# Altium footprint library TSV911ILT Opamp.PcbLib: 1 footprints
Each footprint in its own frame and in the unit in brackets; x right, y up, seen from the top. Pads: shape width x height; smd on the part's side, far side on the other; paste and mask are expansions set on the pad; w line width, h text height; cw(c..) or ccw(c..) is an arc to the next point about the centre after c.
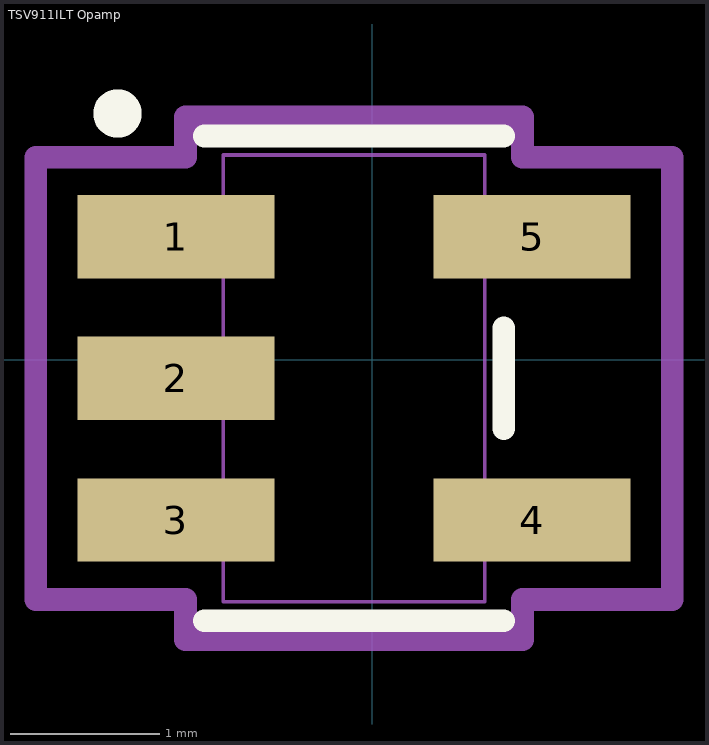
[diagram p0: the footprint, top view; thin cyan lines are the x and y axes]

## TSV911ILT Opamp [mil] "Op Amp Single"
pads (5):
  rect 52x22 smd paste+0: 1(-51.88,32.44) 2(-51.88,-4.96) 3(-51.88,-42.36) 4(42.12,-42.36)
  rect 52x22 smd: 5(42.12,32.44)
Top Overlay:
  circle w10: c-67.32,64.96 r1.38
  lines w6: -44.38,-68.96 34.62,-68.96 ; -44.38,59.04 34.62,59.04 ; 34.62,-18.26 34.62,8.34
Mechanical 13:
  lines w1: -63.88,-52.36 -39.38,-52.36 -39.38,-32.36 -63.88,-32.36 -63.88,-52.36 ; -63.88,-14.96 -39.38,-14.96 -39.38,5.04 -63.88,5.04 -63.88,-14.96 ; -63.88,22.44 -39.38,22.44 -39.38,42.44 -63.88,42.44 -63.88,22.44 ; -39.38,-63.96 -39.38,54.04 29.62,54.04 29.62,-63.96 -39.38,-63.96 ; 29.62,-52.36 54.12,-52.36 54.12,-32.36 29.62,-32.36 29.62,-52.36 ; 29.62,22.44 54.12,22.44 54.12,42.44 29.62,42.44 29.62,22.44
Mechanical 15:
  lines w6: -88.88,-63.36 -88.88,53.44 -49.38,53.44 -49.38,64.04 39.62,64.04 39.62,53.44 79.12,53.44 79.12,-63.36 39.62,-63.36 39.62,-73.96 -49.38,-73.96 -49.38,-63.36 -88.88,-63.36
3D body: height 10, standoff 0, extent -4.88,-4.96 5.12,5.04
3D body "SOT23-5_STM.step": height 57.09, standoff 0, extent -63.89,-63.97 54.14,54.06